# Altium footprint library Connector_Dsub.PcbLib: 120 footprints (part 5 of 8)
Each footprint in its own frame and in the unit in brackets; x right, y up, seen from the top. Pads: shape width x height; smd on the part's side, far side on the other; paste and mask are expansions set on the pad; w line width, h text height; cw(c..) or ccw(c..) is an arc to the next point about the centre after c.
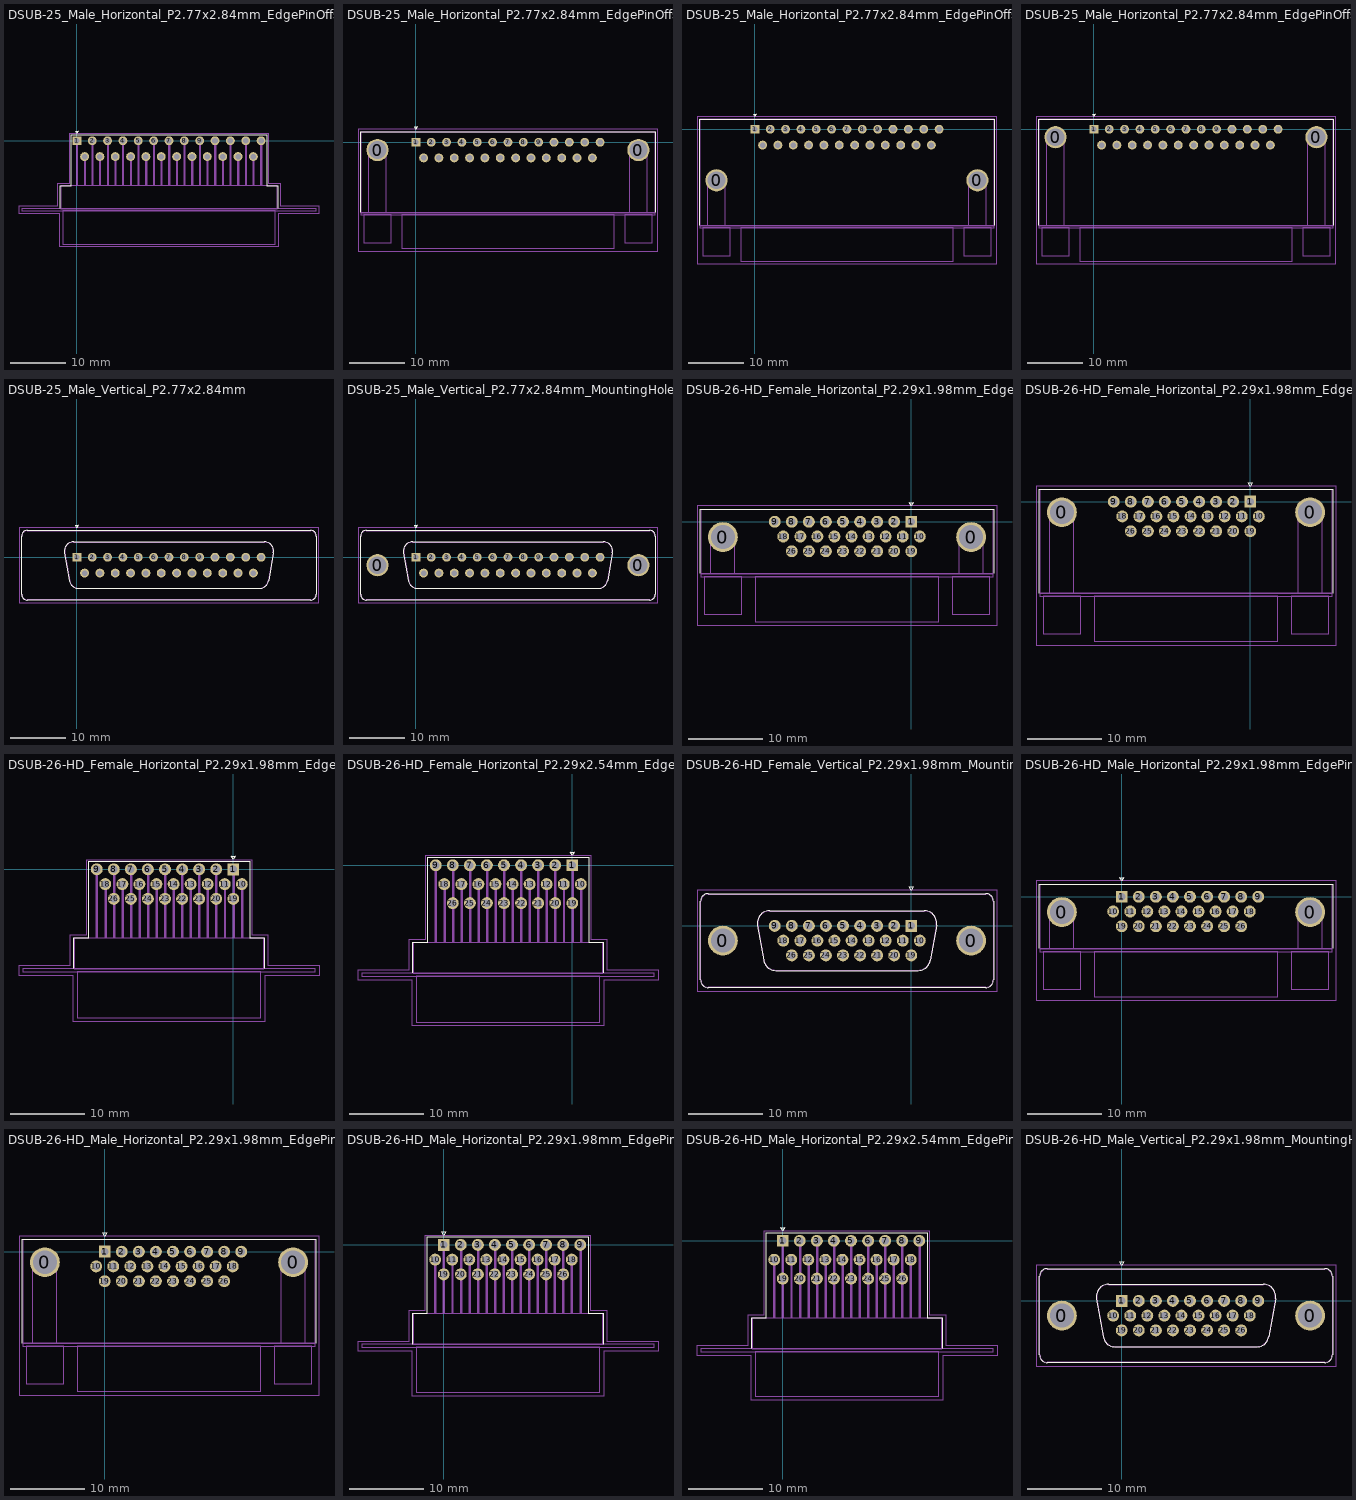
[diagram p4: the footprints below, top view; thin cyan lines are the x and y axes]

## DSUB-25_Male_Horizontal_P2.77x2.84mm_EdgePinOffset9.40mm [mm]
pads (25):
  rect 1.6x1.6 hole 1: 1(0,0)
  round 1.6 hole 1: 2(2.77,0) 3(5.54,0) 4(8.31,0) 5(11.08,0) 6(13.85,0) 7(16.62,0) 8(19.39,0) 9(22.16,0) 10(24.93,0) 11(27.7,0) 12(30.47,0) 13(33.24,0) 14(1.385,-2.84) 15(4.155,-2.84) 16(6.925,-2.84) 17(9.695,-2.84) 18(12.465,-2.84) 19(15.235,-2.84) 20(18.005,-2.84) 21(20.775,-2.84) 22(23.545,-2.84) 23(26.315,-2.84) 24(29.085,-2.84) 25(31.855,-2.84)
F.SilkS:
  lines w0.12: -2.99,-12.18 -2.99,-8.08 -1.06,-8.08 -1.06,1.06 34.3,1.06 34.3,-8.08 36.23,-8.08 36.23,-12.18 ; -0.25,1.754 0,1.321 0.25,1.754 -0.25,1.754
F.CrtYd:
  lines w0.05: -10.45,-13.15 -3.05,-13.15 -3.05,-19.15 36.3,-19.15 36.3,-13.15 43.7,-13.15 43.7,-11.75 36.7,-11.75 36.7,-7.65 34.55,-7.65 34.55,1.35 -1.3,1.35 -1.3,-7.65 -3.45,-7.65 -3.45,-11.75 -10.45,-11.75 -10.45,-13.15
F.Fab:
  lines w0.1: -0.1,-8.14 -0.1,0 ; 0,-8.14 0,0 ; 0.1,-8.14 0.1,0 ; 1.285,-8.14 1.285,-2.84 ; 1.385,-8.14 1.385,-2.84 ; 1.485,-8.14 1.485,-2.84 ; 2.67,-8.14 2.67,0 ; 2.77,-8.14 2.77,0 ; 2.87,-8.14 2.87,0 ; 4.055,-8.14 4.055,-2.84 ; 4.155,-8.14 4.155,-2.84 ; 4.255,-8.14 4.255,-2.84 ; 5.44,-8.14 5.44,0 ; 5.54,-8.14 5.54,0 ; 5.64,-8.14 5.64,0 ; 6.825,-8.14 6.825,-2.84 ; 6.925,-8.14 6.925,-2.84 ; 7.025,-8.14 7.025,-2.84 ; 8.21,-8.14 8.21,0 ; 8.31,-8.14 8.31,0 ; 8.41,-8.14 8.41,0 ; 9.595,-8.14 9.595,-2.84 ; 9.695,-8.14 9.695,-2.84 ; 9.795,-8.14 9.795,-2.84 ; 10.98,-8.14 10.98,0 ; 11.08,-8.14 11.08,0 ; 11.18,-8.14 11.18,0 ; 12.365,-8.14 12.365,-2.84 ; 12.465,-8.14 12.465,-2.84 ; 12.565,-8.14 12.565,-2.84 ; 13.75,-8.14 13.75,0 ; 13.85,-8.14 13.85,0 ; 13.95,-8.14 13.95,0 ; 15.135,-8.14 15.135,-2.84 ; 15.235,-8.14 15.235,-2.84 ; 15.335,-8.14 15.335,-2.84 ; 16.52,-8.14 16.52,0 ; 16.62,-8.14 16.62,0 ; 16.72,-8.14 16.72,0 ; 17.905,-8.14 17.905,-2.84 ; 18.005,-8.14 18.005,-2.84 ; 18.105,-8.14 18.105,-2.84 ; 19.29,-8.14 19.29,0 ; 19.39,-8.14 19.39,0 ; 19.49,-8.14 19.49,0 ; 20.675,-8.14 20.675,-2.84 ; 20.775,-8.14 20.775,-2.84 ; 20.875,-8.14 20.875,-2.84 ; 22.06,-8.14 22.06,0 ; 22.16,-8.14 22.16,0 ; 22.26,-8.14 22.26,0 ; 23.445,-8.14 23.445,-2.84 ; 23.545,-8.14 23.545,-2.84 ; 23.645,-8.14 23.645,-2.84 ; 24.83,-8.14 24.83,0 ; 24.93,-8.14 24.93,0 ; 25.03,-8.14 25.03,0 ; 26.215,-8.14 26.215,-2.84 ; 26.315,-8.14 26.315,-2.84 ; 26.415,-8.14 26.415,-2.84 ; 27.6,-8.14 27.6,0 ; 27.7,-8.14 27.7,0 ; 27.8,-8.14 27.8,0 ; 28.985,-8.14 28.985,-2.84 ; 29.085,-8.14 29.085,-2.84 ; 29.185,-8.14 29.185,-2.84 ; 30.37,-8.14 30.37,0 ; 30.47,-8.14 30.47,0 ; 30.57,-8.14 30.57,0 ; 31.755,-8.14 31.755,-2.84 ; 31.855,-8.14 31.855,-2.84 ; 31.955,-8.14 31.955,-2.84 ; 33.14,-8.14 33.14,0 ; 33.24,-8.14 33.24,0 ; 33.34,-8.14 33.34,0 ; -9.93,-12.64 43.17,-12.64 43.17,-12.24 -9.93,-12.24 -9.93,-12.64 ; -2.93,-12.24 -2.93,-8.14 36.17,-8.14 36.17,-12.24 -2.93,-12.24 ; -2.53,-18.64 -2.53,-12.64 35.77,-12.64 35.77,-18.64 -2.53,-18.64
  text "'.Designator'" at 12.573,-16.48 h1

## DSUB-25_Male_Horizontal_P2.77x2.84mm_EdgePinOffset9.90mm_Housed_MountingHolesOffset11.32mm [mm]
pads (27):
  round 4 hole 3.2: 0(-6.93,-1.42) 0(40.17,-1.42)
  rect 1.6x1.6 hole 1: 1(0,0)
  round 1.6 hole 1: 2(2.77,0) 3(5.54,0) 4(8.31,0) 5(11.08,0) 6(13.85,0) 7(16.62,0) 8(19.39,0) 9(22.16,0) 10(24.93,0) 11(27.7,0) 12(30.47,0) 13(33.24,0) 14(1.385,-2.84) 15(4.155,-2.84) 16(6.925,-2.84) 17(9.695,-2.84) 18(12.465,-2.84) 19(15.235,-2.84) 20(18.005,-2.84) 21(20.775,-2.84) 22(23.545,-2.84) 23(26.315,-2.84) 24(29.085,-2.84) 25(31.855,-2.84)
F.SilkS:
  lines w0.12: -9.99,-12.68 -9.99,1.86 43.23,1.86 43.23,-12.68 ; -0.25,2.754 0.25,2.754 0,2.321 -0.25,2.754
F.CrtYd:
  lines w0.05: -10.45,-19.65 -10.45,2.35 43.7,2.35 43.7,-19.65 -10.45,-19.65
F.Fab:
  lines w0.1: -8.53,-12.74 -8.53,-1.42 cw(c-6.93,-1.42) -5.33,-1.42 -5.33,-12.74 ; 38.57,-12.74 38.57,-1.42 cw(c40.17,-1.42) 41.77,-1.42 41.77,-12.74 ; -9.93,-12.74 -9.93,1.8 43.17,1.8 43.17,-12.74 ; -9.93,-12.74 43.17,-12.74 ; -9.93,-12.74 43.17,-12.74 ; -9.93,-12.74 -9.93,-13.14 43.17,-13.14 43.17,-12.74 ; -9.43,-18.14 -9.43,-13.14 -4.43,-13.14 -4.43,-18.14 -9.43,-18.14 ; -2.53,-19.14 -2.53,-13.14 35.77,-13.14 35.77,-19.14 -2.53,-19.14 ; 37.67,-18.14 37.67,-13.14 42.67,-13.14 42.67,-18.14 37.67,-18.14
  text "'.Designator'" at 12.573,-16.98 h1

## DSUB-25_Male_Horizontal_P2.77x2.84mm_EdgePinOffset14.56mm_Housed_MountingHolesOffset8.20mm [mm]
pads (27):
  round 4 hole 3.2: 0(-6.93,-9.2) 0(40.17,-9.2)
  rect 1.6x1.6 hole 1: 1(0,0)
  round 1.6 hole 1: 2(2.77,0) 3(5.54,0) 4(8.31,0) 5(11.08,0) 6(13.85,0) 7(16.62,0) 8(19.39,0) 9(22.16,0) 10(24.93,0) 11(27.7,0) 12(30.47,0) 13(33.24,0) 14(1.385,-2.84) 15(4.155,-2.84) 16(6.925,-2.84) 17(9.695,-2.84) 18(12.465,-2.84) 19(15.235,-2.84) 20(18.005,-2.84) 21(20.775,-2.84) 22(23.545,-2.84) 23(26.315,-2.84) 24(29.085,-2.84) 25(31.855,-2.84)
F.SilkS:
  lines w0.12: -9.99,-17.34 -9.99,1.86 43.23,1.86 43.23,-17.34 ; -0.25,2.754 0,2.321 0.25,2.754 -0.25,2.754
F.CrtYd:
  lines w0.05: -10.45,-24.3 43.7,-24.3 43.7,2.3 -10.45,2.3 -10.45,-24.3
F.Fab:
  lines w0.1: -8.53,-17.4 -8.53,-9.2 cw(c-6.93,-9.2) -5.33,-9.2 -5.33,-17.4 ; 38.57,-17.4 38.57,-9.2 cw(c40.17,-9.2) 41.77,-9.2 41.77,-17.4 ; -9.93,-17.4 -9.93,1.8 43.17,1.8 43.17,-17.4 ; -9.93,-17.4 43.17,-17.4 ; -9.93,-17.4 -9.93,-17.8 43.17,-17.8 43.17,-17.4 ; -9.93,-17.4 43.17,-17.4 ; -9.43,-22.8 -9.43,-17.8 -4.43,-17.8 -4.43,-22.8 -9.43,-22.8 ; -2.53,-23.8 -2.53,-17.8 35.77,-17.8 35.77,-23.8 -2.53,-23.8 ; 37.67,-22.8 42.67,-22.8 42.67,-17.8 37.67,-17.8 37.67,-22.8
  text "'.Designator'" at 12.573,-21.64 h1

## DSUB-25_Male_Horizontal_P2.77x2.84mm_EdgePinOffset14.56mm_Housed_MountingHolesOffset15.98mm [mm]
pads (27):
  round 4 hole 3.2: 0(-6.93,-1.42) 0(40.17,-1.42)
  rect 1.6x1.6 hole 1: 1(0,0)
  round 1.6 hole 1: 2(2.77,0) 3(5.54,0) 4(8.31,0) 5(11.08,0) 6(13.85,0) 7(16.62,0) 8(19.39,0) 9(22.16,0) 10(24.93,0) 11(27.7,0) 12(30.47,0) 13(33.24,0) 14(1.385,-2.84) 15(4.155,-2.84) 16(6.925,-2.84) 17(9.695,-2.84) 18(12.465,-2.84) 19(15.235,-2.84) 20(18.005,-2.84) 21(20.775,-2.84) 22(23.545,-2.84) 23(26.315,-2.84) 24(29.085,-2.84) 25(31.855,-2.84)
F.SilkS:
  lines w0.12: -9.99,-17.34 -9.99,1.86 43.23,1.86 43.23,-17.34 ; -0.25,2.754 0.25,2.754 0,2.321 -0.25,2.754
F.CrtYd:
  lines w0.05: -10.45,-24.3 -10.45,2.3 43.7,2.3 43.7,-24.3 -10.45,-24.3
F.Fab:
  lines w0.1: -8.53,-17.4 -8.53,-1.42 cw(c-6.93,-1.42) -5.33,-1.42 -5.33,-17.4 ; 38.57,-17.4 38.57,-1.42 cw(c40.17,-1.42) 41.77,-1.42 41.77,-17.4 ; -9.93,-17.4 43.17,-17.4 ; -9.93,-17.4 43.17,-17.4 ; -9.93,-17.4 -9.93,1.8 43.17,1.8 43.17,-17.4 ; -9.93,-17.4 -9.93,-17.8 43.17,-17.8 43.17,-17.4 ; -9.43,-22.8 -9.43,-17.8 -4.43,-17.8 -4.43,-22.8 -9.43,-22.8 ; -2.53,-23.8 35.77,-23.8 35.77,-17.8 -2.53,-17.8 -2.53,-23.8 ; 37.67,-22.8 37.67,-17.8 42.67,-17.8 42.67,-22.8 37.67,-22.8
  text "'.Designator'" at 12.573,-21.64 h1

## DSUB-25_Male_Vertical_P2.77x2.84mm [mm]
pads (25):
  rect 1.6x1.6 hole 1: 1(0,0)
  round 1.6 hole 1: 2(2.77,0) 3(5.54,0) 4(8.31,0) 5(11.08,0) 6(13.85,0) 7(16.62,0) 8(19.39,0) 9(22.16,0) 10(24.93,0) 11(27.7,0) 12(30.47,0) 13(33.24,0) 14(1.385,-2.84) 15(4.155,-2.84) 16(6.925,-2.84) 17(9.695,-2.84) 18(12.465,-2.84) 19(15.235,-2.84) 20(18.005,-2.84) 21(20.775,-2.84) 22(23.545,-2.84) 23(26.315,-2.84) 24(29.085,-2.84) 25(31.855,-2.84)
F.SilkS:
  lines w0.12: -9.99,-6.67 -9.99,3.83 cw(c-8.93,3.83) -8.93,4.89 42.17,4.89 cw(c42.17,3.83) 43.23,3.83 43.23,-6.67 cw(c42.17,-6.67) 42.17,-7.73 -8.93,-7.73 cw(c-8.93,-6.67) -9.99,-6.67 ; -2.246,0.842 -1.347,-4.258 ccw(c0.288,-3.97) 0.288,-5.63 32.952,-5.63 ccw(c32.952,-3.97) 34.587,-4.258 35.486,0.842 ccw(c33.852,1.13) 33.852,2.79 -0.612,2.79 ccw(c-0.612,1.13) -2.246,0.842 ; -0.25,5.784 0.25,5.784 0,5.351 -0.25,5.784
F.CrtYd:
  lines w0.05: -10.45,-8.2 43.7,-8.2 43.7,5.35 -10.45,5.35 -10.45,-8.2
F.Fab:
  lines w0.1: -9.93,-6.67 -9.93,3.83 cw(c-8.93,3.83) -8.93,4.83 42.17,4.83 cw(c42.17,3.83) 43.17,3.83 43.17,-6.67 cw(c42.17,-6.67) 42.17,-7.67 -8.93,-7.67 cw(c-8.93,-6.67) -9.93,-6.67 ; -2.199,0.852 -1.3,-4.248 ccw(c0.276,-3.97) 0.276,-5.57 32.964,-5.57 ccw(c32.964,-3.97) 34.54,-4.248 35.439,0.852 ccw(c33.863,1.13) 33.863,2.73 -0.623,2.73 ccw(c-0.623,1.13) -2.199,0.852
  text "'.Designator'" at 12.573,-2.26 h1

## DSUB-25_Male_Vertical_P2.77x2.84mm_MountingHoles [mm]
pads (27):
  round 4 hole 3.2: 0(-6.93,-1.42) 0(40.17,-1.42)
  rect 1.6x1.6 hole 1: 1(0,0)
  round 1.6 hole 1: 2(2.77,0) 3(5.54,0) 4(8.31,0) 5(11.08,0) 6(13.85,0) 7(16.62,0) 8(19.39,0) 9(22.16,0) 10(24.93,0) 11(27.7,0) 12(30.47,0) 13(33.24,0) 14(1.385,-2.84) 15(4.155,-2.84) 16(6.925,-2.84) 17(9.695,-2.84) 18(12.465,-2.84) 19(15.235,-2.84) 20(18.005,-2.84) 21(20.775,-2.84) 22(23.545,-2.84) 23(26.315,-2.84) 24(29.085,-2.84) 25(31.855,-2.84)
F.SilkS:
  lines w0.12: -9.99,-6.67 -9.99,3.83 cw(c-8.93,3.83) -8.93,4.89 42.17,4.89 cw(c42.17,3.83) 43.23,3.83 43.23,-6.67 cw(c42.17,-6.67) 42.17,-7.73 -8.93,-7.73 cw(c-8.93,-6.67) -9.99,-6.67 ; -2.246,0.842 -1.347,-4.258 ccw(c0.288,-3.97) 0.288,-5.63 32.952,-5.63 ccw(c32.952,-3.97) 34.587,-4.258 35.486,0.842 ccw(c33.852,1.13) 33.852,2.79 -0.612,2.79 ccw(c-0.612,1.13) -2.246,0.842 ; -0.25,5.784 0.25,5.784 0,5.351 -0.25,5.784
F.CrtYd:
  lines w0.05: -10.45,-8.2 -10.45,5.35 43.7,5.35 43.7,-8.2 -10.45,-8.2
F.Fab:
  lines w0.1: -9.93,-6.67 -9.93,3.83 cw(c-8.93,3.83) -8.93,4.83 42.17,4.83 cw(c42.17,3.83) 43.17,3.83 43.17,-6.67 cw(c42.17,-6.67) 42.17,-7.67 -8.93,-7.67 cw(c-8.93,-6.67) -9.93,-6.67 ; -2.199,0.852 -1.3,-4.248 ccw(c0.276,-3.97) 0.276,-5.57 32.964,-5.57 ccw(c32.964,-3.97) 34.54,-4.248 35.439,0.852 ccw(c33.863,1.13) 33.863,2.73 -0.623,2.73 ccw(c-0.623,1.13) -2.199,0.852
  text "'.Designator'" at 12.573,-2.26 h1

## DSUB-26-HD_Female_Horizontal_P2.29x1.98mm_EdgePinOffset3.03mm_Housed_MountingHolesOffset4.94mm [mm]
pads (28):
  round 4 hole 3.2: 0(-25.275,-2.05) 0(8.025,-2.05)
  rect 1.6x1.6 hole 1: 1(0,0)
  round 1.6 hole 1: 2(-2.29,0) 3(-4.58,0) 4(-6.87,0) 5(-9.16,0) 6(-11.45,0) 7(-13.74,0) 8(-16.03,0) 9(-18.32,0) 10(1.145,-1.98) 11(-1.145,-1.98) 12(-3.435,-1.98) 13(-5.725,-1.98) 14(-8.015,-1.98) 15(-10.305,-1.98) 16(-12.595,-1.98) 17(-14.885,-1.98) 18(-17.175,-1.98) 19(0,-3.96) 20(-2.29,-3.96) 21(-4.58,-3.96) 22(-6.87,-3.96) 23(-9.16,-3.96) 24(-11.45,-3.96) 25(-13.74,-3.96) 26(-16.03,-3.96)
F.SilkS:
  lines w0.12: -28.285,-6.93 -28.285,1.67 11.035,1.67 11.035,-6.93 ; -0.25,2.564 0.25,2.564 0,2.131 -0.25,2.564
F.CrtYd:
  lines w0.05: -28.75,-13.9 11.5,-13.9 11.5,2.15 -28.75,2.15 -28.75,-13.9
F.Fab:
  lines w0.1: -26.875,-6.99 -26.875,-2.05 cw(c-25.275,-2.05) -23.675,-2.05 -23.675,-6.99 ; 6.425,-6.99 6.425,-2.05 cw(c8.025,-2.05) 9.625,-2.05 9.625,-6.99 ; -28.225,-6.99 10.975,-6.99 ; -28.225,-6.99 -28.225,1.61 10.975,1.61 10.975,-6.99 ; -28.225,-6.99 10.975,-6.99 ; -28.225,-6.99 -28.225,-7.39 10.975,-7.39 10.975,-6.99 ; -27.775,-12.39 -22.775,-12.39 -22.775,-7.39 -27.775,-7.39 -27.775,-12.39 ; -20.925,-13.39 -20.925,-7.39 3.675,-7.39 3.675,-13.39 -20.925,-13.39 ; 5.525,-12.39 10.525,-12.39 10.525,-7.39 5.525,-7.39 5.525,-12.39
  text "'.Designator'" at -12.672,-11.23 h1

## DSUB-26-HD_Female_Horizontal_P2.29x1.98mm_EdgePinOffset8.35mm_Housed_MountingHolesOffset10.89mm [mm]
pads (28):
  round 4 hole 3.2: 0(-25.275,-1.42) 0(8.025,-1.42)
  rect 1.6x1.6 hole 1: 1(0,0)
  round 1.6 hole 1: 2(-2.29,0) 3(-4.58,0) 4(-6.87,0) 5(-9.16,0) 6(-11.45,0) 7(-13.74,0) 8(-16.03,0) 9(-18.32,0) 10(1.145,-1.98) 11(-1.145,-1.98) 12(-3.435,-1.98) 13(-5.725,-1.98) 14(-8.015,-1.98) 15(-10.305,-1.98) 16(-12.595,-1.98) 17(-14.885,-1.98) 18(-17.175,-1.98) 19(0,-3.96) 20(-2.29,-3.96) 21(-4.58,-3.96) 22(-6.87,-3.96) 23(-9.16,-3.96) 24(-11.45,-3.96) 25(-13.74,-3.96) 26(-16.03,-3.96)
F.SilkS:
  lines w0.12: -28.285,-12.25 -28.285,1.64 11.035,1.64 11.035,-12.25 ; -0.25,2.534 0,2.101 0.25,2.534 -0.25,2.534
F.CrtYd:
  lines w0.05: -28.75,-19.25 -28.75,2.1 11.5,2.1 11.5,-19.25 -28.75,-19.25
F.Fab:
  lines w0.1: -26.875,-12.31 -26.875,-1.42 cw(c-25.275,-1.42) -23.675,-1.42 -23.675,-12.31 ; 6.425,-12.31 6.425,-1.42 cw(c8.025,-1.42) 9.625,-1.42 9.625,-12.31 ; -28.225,-12.31 10.975,-12.31 ; -28.225,-12.31 -28.225,-12.71 10.975,-12.71 10.975,-12.31 ; -28.225,-12.31 10.975,-12.31 ; -28.225,-12.31 -28.225,1.58 10.975,1.58 10.975,-12.31 ; -27.775,-17.71 -27.775,-12.71 -22.775,-12.71 -22.775,-17.71 -27.775,-17.71 ; -20.925,-18.71 -20.925,-12.71 3.675,-12.71 3.675,-18.71 -20.925,-18.71 ; 5.525,-17.71 5.525,-12.71 10.525,-12.71 10.525,-17.71 5.525,-17.71
  text "'.Designator'" at -12.672,-16.55 h1

## DSUB-26-HD_Female_Horizontal_P2.29x1.98mm_EdgePinOffset9.40mm [mm]
pads (26):
  rect 1.6x1.6 hole 1: 1(0,0)
  round 1.6 hole 1: 2(-2.29,0) 3(-4.58,0) 4(-6.87,0) 5(-9.16,0) 6(-11.45,0) 7(-13.74,0) 8(-16.03,0) 9(-18.32,0) 10(1.145,-1.98) 11(-1.145,-1.98) 12(-3.435,-1.98) 13(-5.725,-1.98) 14(-8.015,-1.98) 15(-10.305,-1.98) 16(-12.595,-1.98) 17(-14.885,-1.98) 18(-17.175,-1.98) 19(0,-3.96) 20(-2.29,-3.96) 21(-4.58,-3.96) 22(-6.87,-3.96) 23(-9.16,-3.96) 24(-11.45,-3.96) 25(-13.74,-3.96) 26(-16.03,-3.96)
F.SilkS:
  lines w0.12: -21.385,-13.3 -21.385,-9.2 -19.38,-9.2 -19.38,1.06 2.205,1.06 2.205,-9.2 4.135,-9.2 4.135,-13.3 ; -0.25,1.754 0.25,1.754 0,1.321 -0.25,1.754
F.CrtYd:
  lines w0.05: -28.75,-14.3 -21.45,-14.3 -21.45,-20.45 4.2,-20.45 4.2,-14.3 11.5,-14.3 11.5,-12.9 4.6,-12.9 4.6,-8.8 2.45,-8.8 2.45,1.3 -19.65,1.3 -19.65,-8.8 -21.85,-8.8 -21.85,-12.9 -28.75,-12.9 -28.75,-14.3
F.Fab:
  lines w0.1: -18.42,-9.26 -18.42,0 ; -18.32,-9.26 -18.32,0 ; -18.22,-9.26 -18.22,0 ; -17.275,-9.26 -17.275,-1.98 ; -17.175,-9.26 -17.175,-1.98 ; -17.075,-9.26 -17.075,-1.98 ; -16.13,-3.96 -16.13,-9.26 -16.13,0 ; -16.03,-3.96 -16.03,-9.26 -16.03,0 ; -15.93,-3.96 -15.93,-9.26 -15.93,0 ; -14.985,-9.26 -14.985,-1.98 ; -14.885,-9.26 -14.885,-1.98 ; -14.785,-9.26 -14.785,-1.98 ; -13.84,-3.96 -13.84,-9.26 -13.84,0 ; -13.74,-3.96 -13.74,-9.26 -13.74,0 ; -13.64,-3.96 -13.64,-9.26 -13.64,0 ; -12.695,-9.26 -12.695,-1.98 ; -12.595,-9.26 -12.595,-1.98 ; -12.495,-9.26 -12.495,-1.98 ; -11.55,-3.96 -11.55,-9.26 -11.55,0 ; -11.45,-3.96 -11.45,-9.26 -11.45,0 ; -11.35,-3.96 -11.35,-9.26 -11.35,0 ; -10.405,-9.26 -10.405,-1.98 ; -10.305,-9.26 -10.305,-1.98 ; -10.205,-9.26 -10.205,-1.98 ; -9.26,-3.96 -9.26,-9.26 -9.26,0 ; -9.16,-3.96 -9.16,-9.26 -9.16,0 ; -9.06,-3.96 -9.06,-9.26 -9.06,0 ; -8.115,-9.26 -8.115,-1.98 ; -8.015,-9.26 -8.015,-1.98 ; -7.915,-9.26 -7.915,-1.98 ; -6.97,-3.96 -6.97,-9.26 -6.97,0 ; -6.87,-3.96 -6.87,-9.26 -6.87,0 ; -6.77,-3.96 -6.77,-9.26 -6.77,0 ; -5.825,-9.26 -5.825,-1.98 ; -5.725,-9.26 -5.725,-1.98 ; -5.625,-9.26 -5.625,-1.98 ; -4.68,-3.96 -4.68,-9.26 -4.68,0 ; -4.58,-3.96 -4.58,-9.26 -4.58,0 ; -4.48,-3.96 -4.48,-9.26 -4.48,0 ; -3.535,-9.26 -3.535,-1.98 ; -3.435,-9.26 -3.435,-1.98 ; -3.335,-9.26 -3.335,-1.98 ; -2.39,-3.96 -2.39,-9.26 -2.39,0 ; -2.29,-3.96 -2.29,-9.26 -2.29,0 ; -2.19,-3.96 -2.19,-9.26 -2.19,0 ; -1.245,-9.26 -1.245,-1.98 ; -1.145,-9.26 -1.145,-1.98 ; -1.045,-9.26 -1.045,-1.98 ; -0.1,-3.96 -0.1,-9.26 -0.1,0 ; 0,-3.96 0,-9.26 0,0 ; 0.1,-3.96 0.1,-9.26 0.1,0 ; 1.045,-9.26 1.045,-1.98 ; 1.145,-9.26 1.145,-1.98 ; 1.245,-9.26 1.245,-1.98 ; -28.225,-13.76 10.975,-13.76 10.975,-13.36 -28.225,-13.36 -28.225,-13.76 ; -21.325,-13.36 -21.325,-9.26 4.075,-9.26 4.075,-13.36 -21.325,-13.36 ; -20.925,-19.93 -20.925,-13.76 3.675,-13.76 3.675,-19.93 -20.925,-19.93
  text "'.Designator'" at -12.672,-17.685 h1

## DSUB-26-HD_Female_Horizontal_P2.29x2.54mm_EdgePinOffset9.40mm [mm]
pads (26):
  rect 1.6x1.6 hole 1: 1(0,0)
  round 1.6 hole 1: 2(-2.29,0) 3(-4.58,0) 4(-6.87,0) 5(-9.16,0) 6(-11.45,0) 7(-13.74,0) 8(-16.03,0) 9(-18.32,0) 10(1.145,-2.54) 11(-1.145,-2.54) 12(-3.435,-2.54) 13(-5.725,-2.54) 14(-8.015,-2.54) 15(-10.305,-2.54) 16(-12.595,-2.54) 17(-14.885,-2.54) 18(-17.175,-2.54) 19(0,-5.08) 20(-2.29,-5.08) 21(-4.58,-5.08) 22(-6.87,-5.08) 23(-9.16,-5.08) 24(-11.45,-5.08) 25(-13.74,-5.08) 26(-16.03,-5.08)
F.SilkS:
  lines w0.12: -21.385,-14.42 -21.385,-10.32 -19.38,-10.32 -19.38,1.06 2.205,1.06 2.205,-10.32 4.135,-10.32 4.135,-14.42 ; -0.25,1.754 0.25,1.754 0,1.321 -0.25,1.754
F.CrtYd:
  lines w0.05: -28.75,-15.4 -28.75,-14 -21.85,-14 -21.85,-9.9 -19.65,-9.9 -19.65,1.35 2.45,1.35 2.45,-9.9 4.6,-9.9 4.6,-14 11.5,-14 11.5,-15.4 4.2,-15.4 4.2,-21.55 -21.45,-21.55 -21.45,-15.4 -28.75,-15.4
F.Fab:
  lines w0.1: -18.42,-10.38 -18.42,0 ; -18.32,-10.38 -18.32,0 ; -18.22,-10.38 -18.22,0 ; -17.275,-10.38 -17.275,-2.54 ; -17.175,-10.38 -17.175,-2.54 ; -17.075,-10.38 -17.075,-2.54 ; -16.13,-5.08 -16.13,-10.38 -16.13,0 ; -16.03,-5.08 -16.03,-10.38 -16.03,0 ; -15.93,-5.08 -15.93,-10.38 -15.93,0 ; -14.985,-10.38 -14.985,-2.54 ; -14.885,-10.38 -14.885,-2.54 ; -14.785,-10.38 -14.785,-2.54 ; -13.84,-5.08 -13.84,-10.38 -13.84,0 ; -13.74,-5.08 -13.74,-10.38 -13.74,0 ; -13.64,-5.08 -13.64,-10.38 -13.64,0 ; -12.695,-10.38 -12.695,-2.54 ; -12.595,-10.38 -12.595,-2.54 ; -12.495,-10.38 -12.495,-2.54 ; -11.55,-5.08 -11.55,-10.38 -11.55,0 ; -11.45,-5.08 -11.45,-10.38 -11.45,0 ; -11.35,-5.08 -11.35,-10.38 -11.35,0 ; -10.405,-10.38 -10.405,-2.54 ; -10.305,-10.38 -10.305,-2.54 ; -10.205,-10.38 -10.205,-2.54 ; -9.26,-5.08 -9.26,-10.38 -9.26,0 ; -9.16,-5.08 -9.16,-10.38 -9.16,0 ; -9.06,-5.08 -9.06,-10.38 -9.06,0 ; -8.115,-10.38 -8.115,-2.54 ; -8.015,-10.38 -8.015,-2.54 ; -7.915,-10.38 -7.915,-2.54 ; -6.97,-5.08 -6.97,-10.38 -6.97,0 ; -6.87,-5.08 -6.87,-10.38 -6.87,0 ; -6.77,-5.08 -6.77,-10.38 -6.77,0 ; -5.825,-10.38 -5.825,-2.54 ; -5.725,-10.38 -5.725,-2.54 ; -5.625,-10.38 -5.625,-2.54 ; -4.68,-5.08 -4.68,-10.38 -4.68,0 ; -4.58,-5.08 -4.58,-10.38 -4.58,0 ; -4.48,-5.08 -4.48,-10.38 -4.48,0 ; -3.535,-10.38 -3.535,-2.54 ; -3.435,-10.38 -3.435,-2.54 ; -3.335,-10.38 -3.335,-2.54 ; -2.39,-5.08 -2.39,-10.38 -2.39,0 ; -2.29,-5.08 -2.29,-10.38 -2.29,0 ; -2.19,-5.08 -2.19,-10.38 -2.19,0 ; -1.245,-10.38 -1.245,-2.54 ; -1.145,-10.38 -1.145,-2.54 ; -1.045,-10.38 -1.045,-2.54 ; -0.1,-5.08 -0.1,-10.38 -0.1,0 ; 0,-5.08 0,-10.38 0,0 ; 0.1,-5.08 0.1,-10.38 0.1,0 ; 1.045,-10.38 1.045,-2.54 ; 1.145,-10.38 1.145,-2.54 ; 1.245,-10.38 1.245,-2.54 ; -28.225,-14.88 10.975,-14.88 10.975,-14.48 -28.225,-14.48 -28.225,-14.88 ; -21.325,-14.48 -21.325,-10.38 4.075,-10.38 4.075,-14.48 -21.325,-14.48 ; -20.925,-21.05 -20.925,-14.88 3.675,-14.88 3.675,-21.05 -20.925,-21.05
  text "'.Designator'" at -12.672,-18.805 h1

## DSUB-26-HD_Female_Vertical_P2.29x1.98mm_MountingHoles [mm]
pads (28):
  round 4 hole 3.2: 0(-25.275,-1.98) 0(8.025,-1.98)
  rect 1.6x1.6 hole 1: 1(0,0)
  round 1.6 hole 1: 2(-2.29,0) 3(-4.58,0) 4(-6.87,0) 5(-9.16,0) 6(-11.45,0) 7(-13.74,0) 8(-16.03,0) 9(-18.32,0) 10(1.145,-1.98) 11(-1.145,-1.98) 12(-3.435,-1.98) 13(-5.725,-1.98) 14(-8.015,-1.98) 15(-10.305,-1.98) 16(-12.595,-1.98) 17(-14.885,-1.98) 18(-17.175,-1.98) 19(0,-3.96) 20(-2.29,-3.96) 21(-4.58,-3.96) 22(-6.87,-3.96) 23(-9.16,-3.96) 24(-11.45,-3.96) 25(-13.74,-3.96) 26(-16.03,-3.96)
F.SilkS:
  lines w0.12: -28.285,-7.23 -28.285,3.27 cw(c-27.225,3.27) -27.225,4.33 9.975,4.33 cw(c9.975,3.27) 11.035,3.27 11.035,-7.23 cw(c9.975,-7.23) 9.975,-8.29 -27.225,-8.29 cw(c-27.225,-7.23) -28.285,-7.23 ; -20.641,0.082 -19.813,-4.618 ccw(c-18.178,-4.33) -18.178,-5.99 0.928,-5.99 ccw(c0.928,-4.33) 2.563,-4.618 3.391,0.082 ccw(c1.757,0.37) 1.757,2.03 -19.007,2.03 ccw(c-19.007,0.37) -20.641,0.082 ; -0.25,5.224 0.25,5.224 0,4.791 -0.25,5.224
F.CrtYd:
  lines w0.05: -28.75,-8.75 11.5,-8.75 11.5,4.8 -28.75,4.8 -28.75,-8.75
F.Fab:
  lines w0.1: -28.225,-7.23 -28.225,3.27 cw(c-27.225,3.27) -27.225,4.27 9.975,4.27 cw(c9.975,3.27) 10.975,3.27 10.975,-7.23 cw(c9.975,-7.23) 9.975,-8.23 -27.225,-8.23 cw(c-27.225,-7.23) -28.225,-7.23 ; -20.594,0.092 -19.765,-4.608 ccw(c-18.189,-4.33) -18.189,-5.93 0.939,-5.93 ccw(c0.939,-4.33) 2.515,-4.608 3.344,0.092 ccw(c1.768,0.37) 1.768,1.97 -19.018,1.97 ccw(c-19.018,0.37) -20.594,0.092
  text "'.Designator'" at -12.672,-2.82 h1

## DSUB-26-HD_Male_Horizontal_P2.29x1.98mm_EdgePinOffset3.03mm_Housed_MountingHolesOffset4.94mm [mm]
pads (28):
  round 4 hole 3.2: 0(-8.025,-2.05) 0(25.275,-2.05)
  rect 1.6x1.6 hole 1: 1(0,0)
  round 1.6 hole 1: 2(2.29,0) 3(4.58,0) 4(6.87,0) 5(9.16,0) 6(11.45,0) 7(13.74,0) 8(16.03,0) 9(18.32,0) 10(-1.145,-1.98) 11(1.145,-1.98) 12(3.435,-1.98) 13(5.725,-1.98) 14(8.015,-1.98) 15(10.305,-1.98) 16(12.595,-1.98) 17(14.885,-1.98) 18(17.175,-1.98) 19(0,-3.96) 20(2.29,-3.96) 21(4.58,-3.96) 22(6.87,-3.96) 23(9.16,-3.96) 24(11.45,-3.96) 25(13.74,-3.96) 26(16.03,-3.96)
F.SilkS:
  lines w0.12: -11.035,-6.93 -11.035,1.67 28.285,1.67 28.285,-6.93 ; -0.25,2.564 0.25,2.564 0,2.131 -0.25,2.564
F.CrtYd:
  lines w0.05: -11.5,-13.9 28.75,-13.9 28.75,2.15 -11.5,2.15 -11.5,-13.9
F.Fab:
  lines w0.1: -9.625,-6.99 -9.625,-2.05 cw(c-8.025,-2.05) -6.425,-2.05 -6.425,-6.99 ; 23.675,-6.99 23.675,-2.05 cw(c25.275,-2.05) 26.875,-2.05 26.875,-6.99 ; -10.975,-6.99 28.225,-6.99 ; -10.975,-6.99 28.225,-6.99 ; -10.975,-6.99 -10.975,-7.39 28.225,-7.39 28.225,-6.99 ; -10.975,-6.99 -10.975,1.61 28.225,1.61 28.225,-6.99 ; -10.525,-12.39 -5.525,-12.39 -5.525,-7.39 -10.525,-7.39 -10.525,-12.39 ; -3.675,-13.39 -3.675,-7.39 20.925,-7.39 20.925,-13.39 -3.675,-13.39 ; 22.775,-12.39 22.775,-7.39 27.775,-7.39 27.775,-12.39 22.775,-12.39
  text "'.Designator'" at 4.578,-11.23 h1

## DSUB-26-HD_Male_Horizontal_P2.29x1.98mm_EdgePinOffset8.35mm_Housed_MountingHolesOffset10.89mm [mm]
pads (28):
  round 4 hole 3.2: 0(-8.025,-1.42) 0(25.275,-1.42)
  rect 1.6x1.6 hole 1: 1(0,0)
  round 1.6 hole 1: 2(2.29,0) 3(4.58,0) 4(6.87,0) 5(9.16,0) 6(11.45,0) 7(13.74,0) 8(16.03,0) 9(18.32,0) 10(-1.145,-1.98) 11(1.145,-1.98) 12(3.435,-1.98) 13(5.725,-1.98) 14(8.015,-1.98) 15(10.305,-1.98) 16(12.595,-1.98) 17(14.885,-1.98) 18(17.175,-1.98) 19(0,-3.96) 20(2.29,-3.96) 21(4.58,-3.96) 22(6.87,-3.96) 23(9.16,-3.96) 24(11.45,-3.96) 25(13.74,-3.96) 26(16.03,-3.96)
F.SilkS:
  lines w0.12: -11.035,-12.25 -11.035,1.64 28.285,1.64 28.285,-12.25 ; -0.25,2.534 0.25,2.534 0,2.101 -0.25,2.534
F.CrtYd:
  lines w0.05: -11.5,-19.25 -11.5,2.1 28.75,2.1 28.75,-19.25 -11.5,-19.25
F.Fab:
  lines w0.1: -9.625,-12.31 -9.625,-1.42 cw(c-8.025,-1.42) -6.425,-1.42 -6.425,-12.31 ; 23.675,-12.31 23.675,-1.42 cw(c25.275,-1.42) 26.875,-1.42 26.875,-12.31 ; -10.975,-12.31 28.225,-12.31 ; -10.975,-12.31 -10.975,-12.71 28.225,-12.71 28.225,-12.31 ; -10.975,-12.31 -10.975,1.58 28.225,1.58 28.225,-12.31 ; -10.975,-12.31 28.225,-12.31 ; -10.525,-17.71 -5.525,-17.71 -5.525,-12.71 -10.525,-12.71 -10.525,-17.71 ; -3.675,-18.71 20.925,-18.71 20.925,-12.71 -3.675,-12.71 -3.675,-18.71 ; 22.775,-17.71 27.775,-17.71 27.775,-12.71 22.775,-12.71 22.775,-17.71
  text "'.Designator'" at 4.578,-16.55 h1

## DSUB-26-HD_Male_Horizontal_P2.29x1.98mm_EdgePinOffset9.40mm [mm]
pads (26):
  rect 1.6x1.6 hole 1: 1(0,0)
  round 1.6 hole 1: 2(2.29,0) 3(4.58,0) 4(6.87,0) 5(9.16,0) 6(11.45,0) 7(13.74,0) 8(16.03,0) 9(18.32,0) 10(-1.145,-1.98) 11(1.145,-1.98) 12(3.435,-1.98) 13(5.725,-1.98) 14(8.015,-1.98) 15(10.305,-1.98) 16(12.595,-1.98) 17(14.885,-1.98) 18(17.175,-1.98) 19(0,-3.96) 20(2.29,-3.96) 21(4.58,-3.96) 22(6.87,-3.96) 23(9.16,-3.96) 24(11.45,-3.96) 25(13.74,-3.96) 26(16.03,-3.96)
F.SilkS:
  lines w0.12: -4.135,-13.3 -4.135,-9.2 -2.205,-9.2 -2.205,1.06 19.38,1.06 19.38,-9.2 21.385,-9.2 21.385,-13.3 ; -0.25,1.754 0.25,1.754 0,1.321 -0.25,1.754
F.CrtYd:
  lines w0.05: -11.5,-14.3 -4.2,-14.3 -4.2,-20.3 21.45,-20.3 21.45,-14.3 28.75,-14.3 28.75,-12.9 21.85,-12.9 21.85,-8.8 19.65,-8.8 19.65,1.3 -2.45,1.3 -2.45,-8.8 -4.6,-8.8 -4.6,-12.9 -11.5,-12.9 -11.5,-14.3
F.Fab:
  lines w0.1: -1.245,-9.26 -1.245,-1.98 ; -1.145,-9.26 -1.145,-1.98 ; -1.045,-9.26 -1.045,-1.98 ; -0.1,-3.96 -0.1,-9.26 -0.1,0 ; 0,-3.96 0,-9.26 0,0 ; 0.1,-3.96 0.1,-9.26 0.1,0 ; 1.045,-9.26 1.045,-1.98 ; 1.145,-9.26 1.145,-1.98 ; 1.245,-9.26 1.245,-1.98 ; 2.19,-3.96 2.19,-9.26 2.19,0 ; 2.29,-3.96 2.29,-9.26 2.29,0 ; 2.39,-3.96 2.39,-9.26 2.39,0 ; 3.335,-9.26 3.335,-1.98 ; 3.435,-9.26 3.435,-1.98 ; 3.535,-9.26 3.535,-1.98 ; 4.48,-3.96 4.48,-9.26 4.48,0 ; 4.58,-3.96 4.58,-9.26 4.58,0 ; 4.68,-3.96 4.68,-9.26 4.68,0 ; 5.625,-9.26 5.625,-1.98 ; 5.725,-9.26 5.725,-1.98 ; 5.825,-9.26 5.825,-1.98 ; 6.77,-3.96 6.77,-9.26 6.77,0 ; 6.87,-3.96 6.87,-9.26 6.87,0 ; 6.97,-3.96 6.97,-9.26 6.97,0 ; 7.915,-9.26 7.915,-1.98 ; 8.015,-9.26 8.015,-1.98 ; 8.115,-9.26 8.115,-1.98 ; 9.06,-3.96 9.06,-9.26 9.06,0 ; 9.16,-3.96 9.16,-9.26 9.16,0 ; 9.26,-3.96 9.26,-9.26 9.26,0 ; 10.205,-9.26 10.205,-1.98 ; 10.305,-9.26 10.305,-1.98 ; 10.405,-9.26 10.405,-1.98 ; 11.35,-3.96 11.35,-9.26 11.35,0 ; 11.45,-3.96 11.45,-9.26 11.45,0 ; 11.55,-3.96 11.55,-9.26 11.55,0 ; 12.495,-9.26 12.495,-1.98 ; 12.595,-9.26 12.595,-1.98 ; 12.695,-9.26 12.695,-1.98 ; 13.64,-3.96 13.64,-9.26 13.64,0 ; 13.74,-3.96 13.74,-9.26 13.74,0 ; 13.84,-3.96 13.84,-9.26 13.84,0 ; 14.785,-9.26 14.785,-1.98 ; 14.885,-9.26 14.885,-1.98 ; 14.985,-9.26 14.985,-1.98 ; 15.93,-3.96 15.93,-9.26 15.93,0 ; 16.03,-3.96 16.03,-9.26 16.03,0 ; 16.13,-3.96 16.13,-9.26 16.13,0 ; 17.075,-9.26 17.075,-1.98 ; 17.175,-9.26 17.175,-1.98 ; 17.275,-9.26 17.275,-1.98 ; 18.22,-9.26 18.22,0 ; 18.32,-9.26 18.32,0 ; 18.42,-9.26 18.42,0 ; -10.975,-13.76 -10.975,-13.36 28.225,-13.36 28.225,-13.76 -10.975,-13.76 ; -4.075,-13.36 -4.075,-9.26 21.325,-9.26 21.325,-13.36 -4.075,-13.36 ; -3.675,-19.76 -3.675,-13.76 20.925,-13.76 20.925,-19.76 -3.675,-19.76
  text "'.Designator'" at 4.578,-17.6 h1

## DSUB-26-HD_Male_Horizontal_P2.29x2.54mm_EdgePinOffset9.40mm [mm]
pads (26):
  rect 1.6x1.6 hole 1: 1(0,0)
  round 1.6 hole 1: 2(2.29,0) 3(4.58,0) 4(6.87,0) 5(9.16,0) 6(11.45,0) 7(13.74,0) 8(16.03,0) 9(18.32,0) 10(-1.145,-2.54) 11(1.145,-2.54) 12(3.435,-2.54) 13(5.725,-2.54) 14(8.015,-2.54) 15(10.305,-2.54) 16(12.595,-2.54) 17(14.885,-2.54) 18(17.175,-2.54) 19(0,-5.08) 20(2.29,-5.08) 21(4.58,-5.08) 22(6.87,-5.08) 23(9.16,-5.08) 24(11.45,-5.08) 25(13.74,-5.08) 26(16.03,-5.08)
F.SilkS:
  lines w0.12: -4.135,-14.42 -4.135,-10.32 -2.205,-10.32 -2.205,1.06 19.38,1.06 19.38,-10.32 21.385,-10.32 21.385,-14.42 ; -0.25,1.754 0.25,1.754 0,1.321 -0.25,1.754
F.CrtYd:
  lines w0.05: -11.5,-15.4 -4.2,-15.4 -4.2,-21.4 21.45,-21.4 21.45,-15.4 28.75,-15.4 28.75,-14 21.85,-14 21.85,-9.9 19.65,-9.9 19.65,1.35 -2.45,1.35 -2.45,-9.9 -4.6,-9.9 -4.6,-14 -11.5,-14 -11.5,-15.4
F.Fab:
  lines w0.1: -1.245,-10.38 -1.245,-2.54 ; -1.145,-10.38 -1.145,-2.54 ; -1.045,-10.38 -1.045,-2.54 ; -0.1,-5.08 -0.1,-10.38 -0.1,0 ; 0,-5.08 0,-10.38 0,0 ; 0.1,-5.08 0.1,-10.38 0.1,0 ; 1.045,-10.38 1.045,-2.54 ; 1.145,-10.38 1.145,-2.54 ; 1.245,-10.38 1.245,-2.54 ; 2.19,-5.08 2.19,-10.38 2.19,0 ; 2.29,-5.08 2.29,-10.38 2.29,0 ; 2.39,-5.08 2.39,-10.38 2.39,0 ; 3.335,-10.38 3.335,-2.54 ; 3.435,-10.38 3.435,-2.54 ; 3.535,-10.38 3.535,-2.54 ; 4.48,-5.08 4.48,-10.38 4.48,0 ; 4.58,-5.08 4.58,-10.38 4.58,0 ; 4.68,-5.08 4.68,-10.38 4.68,0 ; 5.625,-10.38 5.625,-2.54 ; 5.725,-10.38 5.725,-2.54 ; 5.825,-10.38 5.825,-2.54 ; 6.77,-5.08 6.77,-10.38 6.77,0 ; 6.87,-5.08 6.87,-10.38 6.87,0 ; 6.97,-5.08 6.97,-10.38 6.97,0 ; 7.915,-10.38 7.915,-2.54 ; 8.015,-10.38 8.015,-2.54 ; 8.115,-10.38 8.115,-2.54 ; 9.06,-5.08 9.06,-10.38 9.06,0 ; 9.16,-5.08 9.16,-10.38 9.16,0 ; 9.26,-5.08 9.26,-10.38 9.26,0 ; 10.205,-10.38 10.205,-2.54 ; 10.305,-10.38 10.305,-2.54 ; 10.405,-10.38 10.405,-2.54 ; 11.35,-5.08 11.35,-10.38 11.35,0 ; 11.45,-5.08 11.45,-10.38 11.45,0 ; 11.55,-5.08 11.55,-10.38 11.55,0 ; 12.495,-10.38 12.495,-2.54 ; 12.595,-10.38 12.595,-2.54 ; 12.695,-10.38 12.695,-2.54 ; 13.64,-5.08 13.64,-10.38 13.64,0 ; 13.74,-5.08 13.74,-10.38 13.74,0 ; 13.84,-5.08 13.84,-10.38 13.84,0 ; 14.785,-10.38 14.785,-2.54 ; 14.885,-10.38 14.885,-2.54 ; 14.985,-10.38 14.985,-2.54 ; 15.93,-5.08 15.93,-10.38 15.93,0 ; 16.03,-5.08 16.03,-10.38 16.03,0 ; 16.13,-5.08 16.13,-10.38 16.13,0 ; 17.075,-10.38 17.075,-2.54 ; 17.175,-10.38 17.175,-2.54 ; 17.275,-10.38 17.275,-2.54 ; 18.22,-10.38 18.22,0 ; 18.32,-10.38 18.32,0 ; 18.42,-10.38 18.42,0 ; -10.975,-14.88 28.225,-14.88 28.225,-14.48 -10.975,-14.48 -10.975,-14.88 ; -4.075,-14.48 21.325,-14.48 21.325,-10.38 -4.075,-10.38 -4.075,-14.48 ; -3.675,-20.88 20.925,-20.88 20.925,-14.88 -3.675,-14.88 -3.675,-20.88
  text "'.Designator'" at 4.578,-18.72 h1

## DSUB-26-HD_Male_Vertical_P2.29x1.98mm_MountingHoles [mm]
pads (28):
  round 4 hole 3.2: 0(-8.025,-1.98) 0(25.275,-1.98)
  rect 1.6x1.6 hole 1: 1(0,0)
  round 1.6 hole 1: 2(2.29,0) 3(4.58,0) 4(6.87,0) 5(9.16,0) 6(11.45,0) 7(13.74,0) 8(16.03,0) 9(18.32,0) 10(-1.145,-1.98) 11(1.145,-1.98) 12(3.435,-1.98) 13(5.725,-1.98) 14(8.015,-1.98) 15(10.305,-1.98) 16(12.595,-1.98) 17(14.885,-1.98) 18(17.175,-1.98) 19(0,-3.96) 20(2.29,-3.96) 21(4.58,-3.96) 22(6.87,-3.96) 23(9.16,-3.96) 24(11.45,-3.96) 25(13.74,-3.96) 26(16.03,-3.96)
F.SilkS:
  lines w0.12: -11.035,-7.23 -11.035,3.27 cw(c-9.975,3.27) -9.975,4.33 27.225,4.33 cw(c27.225,3.27) 28.285,3.27 28.285,-7.23 cw(c27.225,-7.23) 27.225,-8.29 -9.975,-8.29 cw(c-9.975,-7.23) -11.035,-7.23 ; -3.391,0.282 -2.492,-4.818 ccw(c-0.857,-4.53) -0.857,-6.19 18.107,-6.19 ccw(c18.107,-4.53) 19.742,-4.818 20.641,0.282 ccw(c19.007,0.57) 19.007,2.23 -1.757,2.23 ccw(c-1.757,0.57) -3.391,0.282 ; -0.25,5.224 0.25,5.224 0,4.791 -0.25,5.224
F.CrtYd:
  lines w0.05: -11.5,-8.75 28.75,-8.75 28.75,4.8 -11.5,4.8 -11.5,-8.75
F.Fab:
  lines w0.1: -10.975,-7.23 -10.975,3.27 cw(c-9.975,3.27) -9.975,4.27 27.225,4.27 cw(c27.225,3.27) 28.225,3.27 28.225,-7.23 cw(c27.225,-7.23) 27.225,-8.23 -9.975,-8.23 cw(c-9.975,-7.23) -10.975,-7.23 ; -3.344,0.292 -2.445,-4.808 ccw(c-0.869,-4.53) -0.869,-6.13 18.119,-6.13 ccw(c18.119,-4.53) 19.695,-4.808 20.594,0.292 ccw(c19.018,0.57) 19.018,2.17 -1.768,2.17 ccw(c-1.768,0.57) -3.344,0.292
  text "'.Designator'" at 4.578,-2.82 h1